# EAGLE library part PS_TPS735 (library parts_v26_edits)
500mA, Low Quiescent Current, Ultra-Low Noise, High PSRR Low Dropout Linear Regulator
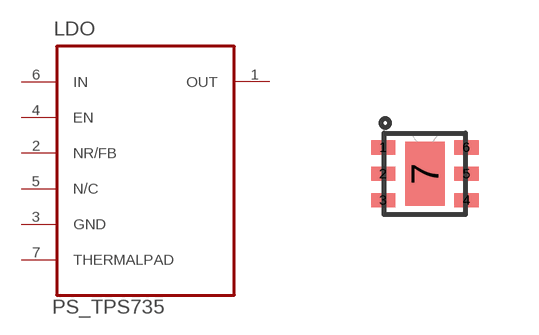
[diagram p4: symbol with the pads of SON65P210X210X80-7N; footprint SON65P210X210X80-7N]

Designator prefix LDO

## PS_TPS73533DRVT (MF: Texas Instruments; MP: TPS73533DRVT; PACKAGE: SON-6 Texas Instruments)  [SON65P210X210X80-7N]
1  OUT  pwr
2  NR/FB  in
3  GND  pas
4  EN  in
5  N/C  nc
6  IN  pwr
7  THERMALPAD  pas

## Footprint SON65P210X210X80-7N (pad centres in mm)
SON-6 package from TI.
smd 0.61 x 0.356: 1 -1.041,0.66; 2 -1.041,0; 3 -1.041,-0.66; 4 1.041,-0.66; 5 1.041,0; 6 1.041,0.66
smd 0.991 x 1.6: 7 0,0